# Altium schematic symbol library DRB-9MA.SchLib: 1 symbol
Pins are listed as number, name and electrical type; pins without a type are passive.

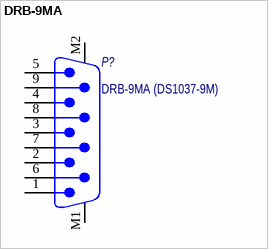
[diagram p0: symbol DRB-9MA]

## DRB-9MA
designator P?  Наименование: DRB-9MA (DS1037-9M)  (hidden comment: DRB-9MA)
D-SUB 9 pins, Male PCB Connector with Hex Screw WR-DSUB, 8.08 mm, Angled; Manufacturer: Wurth Elektronik; Part Number: 618009231221; Working Voltage: 125VAC; Contact Resistance: 30mOhm; Rated Current: 3A; Pin Number: 9; Потребление, Вт: 0.0; Manufacturer URL: http://www.we-online.de; Orientation: Angled; Operating Temperature: -40to85degC; Package Reference: 618009231221; Gender: Male; Mounting Technology: THT; Publisher: WurthElektronik; Datasheet URL: https://katalog.we-online.de/em/datasheet/6180xx231221.pdf; Packaging: Tray; Назначение: D-SUB 9 pins, Male PCB Connector with Hex Screw WR-DSUB, 8.08 mm, Angled; ComponentLink1Description: DataSheet; ComponentLink1URL: http://outer.connfly.group/static/upload/file/pdf/DS1037-02.pdf
footprint DRB-9MA
pins: 1, 2, 3, 4, 5, 6, 7, 8, 9, M1, M2